# EAGLE library part ILD213T (library SparkFun-DiscreteSemi)
Dual Channel Phototransistor Optocoupler Dual Channel 70 V 4000 Vrms Phototransistor Optocoupler in a standard SOIC-8 package. Used to couple signals between electrically isolated circuits. Datasheet <https://www.sparkfun.com/datasheets/Components/SMD/ild205t.pdf> SparkFun Products: SparkFun Opto-Isolator Breakout <https://www.sparkfun.com/products/9118>
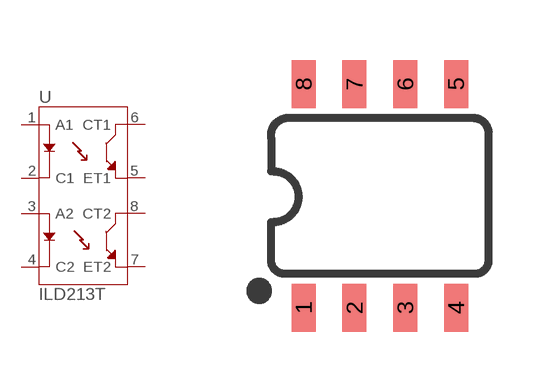
[diagram p5: symbol with the pads of SO08; footprint SO08]

Designator prefix U

## ILD213T-IDL213T (PROD_ID: IC-09076)  [SO08]
1  A1
2  C1
3  A2
4  C2
5  ET1
6  CT1
7  ET2
8  CT2

## Footprint SO08 (pad centres in mm)
SOIC, 0.15 inch width
smd 0.6 x 1.2: 1 -1.905,-2.8; 2 -0.635,-2.8; 3 0.635,-2.8; 4 1.905,-2.8; 5 1.905,2.8; 6 0.635,2.8; 7 -0.635,2.8; 8 -1.905,2.8